# Altium integrated library NSC Voltage Reference.IntLib: 777 symbols (part 20 of 20)
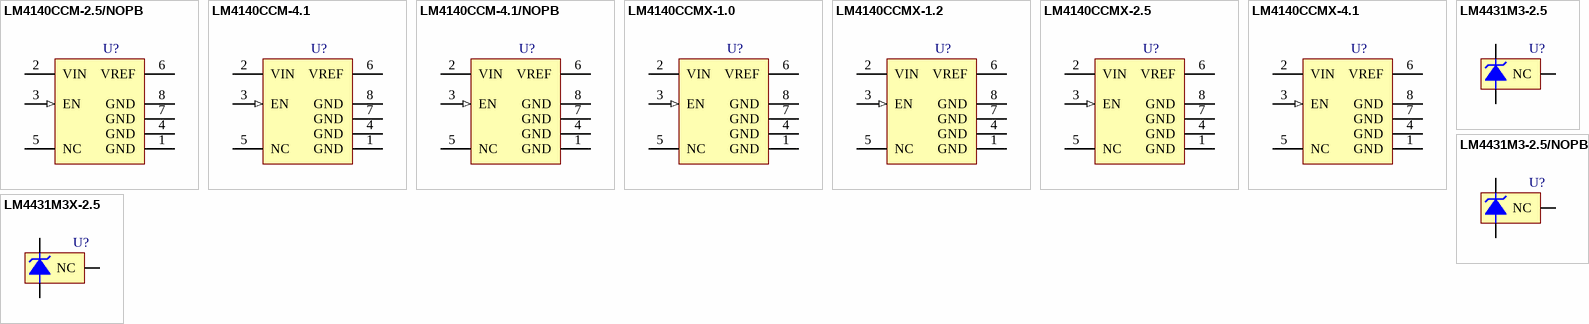
[diagram p39: symbols LM4140CCM-2.5/NOPB to LM4431M3X-2.5]

## LM4140CCM-2.5/NOPB
designator U?
Precision Micropower Low Dropout Voltage Reference, 8-pin Narrow SOIC, Pb-Free; PartNumber: LM4140CCM-2.5/NOPB; Manufacturer: National Semiconductor; PackageTopMarking: NSZXTT*4140C*CM2.5; PowerWise: Y; CompType: Voltage Reference IC; Published: 1-Mar-2010; DatasheetVersion: Feb-2005; PackageVersion: revM, May-2009; PackageReference: M08A; Publisher: Altium Limited; PackageDescription: SOIC Narrow, 4.9 x 3.9 x 1.45mm, 8 Lead, 1.27mm Pitch; Supplier 1: Digi-Key; Supplier Part Number 1: LM4140CCM-2.5-ND; Supplier 2: Farnell; Supplier Part Number 2: 1654319; RoHS: Y; PinCount: 8; Code_JEDEC: MS-012-AA; Code_IPC: SOIC127P600-8; ComponentLink1Description: LM4140 Datasheet; ComponentLink1URL: http://www.national.com/ds/LM/LM4140.pdf; ComponentLink2Description: LM4140 Web Page; ComponentLink2URL: http://www.national.com/pf/LM/LM4140.html; ComponentLink3Description: M08A Package Page; ComponentLink3URL: http://www.national.com/packaging/folders/m08a.html
footprint M08A_N (SOIC, 8-Leads, Body 4.9x3.9mm, Pitch 1.27mm, IPC Medium Density)
footprint M08A_L (SOIC, 8-Leads, Body 4.9x3.9mm, Pitch 1.27mm, IPC High Density)
footprint M08A_M (SOIC, 8-Leads, Body 4.9x3.9mm, Pitch 1.27mm, IPC Low Density)
pins: 1 GND (power), 2 VIN (power), 3 EN (in), 4 GND (power), 5 NC, 6 VREF (power), 7 GND (power), 8 GND (power)

## LM4140CCM-4.1
designator U?
Precision Micropower Low Dropout Voltage Reference, 8-pin Narrow SOIC; PartNumber: LM4140CCM-4.1; Manufacturer: National Semiconductor; PackageTopMarking: NSZXTT*4140C*CM4.1; PowerWise: Y; CompType: Voltage Reference IC; Published: 4-Dec-2008; DatasheetVersion: Feb-2005; PackageVersion: revM, May-2009; PackageReference: M08A; Publisher: Altium Limited; PackageDescription: SOIC Narrow, 4.9 x 3.9 x 1.45mm, 8 Lead, 1.27mm Pitch; Supplier 1: Farnell; Supplier Part Number 1: 1286895; RoHS: N; PinCount: 8; Code_JEDEC: MS-012-AA; Code_IPC: SOIC127P600-8; ComponentLink1Description: LM4140 Datasheet; ComponentLink1URL: http://www.national.com/ds/LM/LM4140.pdf; ComponentLink2Description: LM4140 Web Page; ComponentLink2URL: http://www.national.com/pf/LM/LM4140.html; ComponentLink3Description: M08A Package Page; ComponentLink3URL: http://www.national.com/packaging/folders/m08a.html
footprint M08A_N (SOIC, 8-Leads, Body 4.9x3.9mm, Pitch 1.27mm, IPC Medium Density)
footprint M08A_L (SOIC, 8-Leads, Body 4.9x3.9mm, Pitch 1.27mm, IPC High Density)
footprint M08A_M (SOIC, 8-Leads, Body 4.9x3.9mm, Pitch 1.27mm, IPC Low Density)
pins: 1 GND (power), 2 VIN (power), 3 EN (in), 4 GND (power), 5 NC, 6 VREF (power), 7 GND (power), 8 GND (power)

## LM4140CCM-4.1/NOPB
designator U?
Precision Micropower Low Dropout Voltage Reference, 8-pin Narrow SOIC, Pb-Free; PartNumber: LM4140CCM-4.1/NOPB; Manufacturer: National Semiconductor; PackageTopMarking: NSZXTT*4140C*CM4.1; PowerWise: Y; CompType: Voltage Reference IC; Published: 1-Mar-2010; DatasheetVersion: Feb-2005; PackageVersion: revM, May-2009; PackageReference: M08A; Publisher: Altium Limited; PackageDescription: SOIC Narrow, 4.9 x 3.9 x 1.45mm, 8 Lead, 1.27mm Pitch; Supplier 1: Digi-Key; Supplier Part Number 1: LM4140CCM-4.1-ND; Supplier 2: Farnell; Supplier Part Number 2: 1654320; RoHS: Y; PinCount: 8; Code_JEDEC: MS-012-AA; Code_IPC: SOIC127P600-8; ComponentLink1Description: LM4140 Datasheet; ComponentLink1URL: http://www.national.com/ds/LM/LM4140.pdf; ComponentLink2Description: LM4140 Web Page; ComponentLink2URL: http://www.national.com/pf/LM/LM4140.html; ComponentLink3Description: M08A Package Page; ComponentLink3URL: http://www.national.com/packaging/folders/m08a.html
footprint M08A_N (SOIC, 8-Leads, Body 4.9x3.9mm, Pitch 1.27mm, IPC Medium Density)
footprint M08A_L (SOIC, 8-Leads, Body 4.9x3.9mm, Pitch 1.27mm, IPC High Density)
footprint M08A_M (SOIC, 8-Leads, Body 4.9x3.9mm, Pitch 1.27mm, IPC Low Density)
pins: 1 GND (power), 2 VIN (power), 3 EN (in), 4 GND (power), 5 NC, 6 VREF (power), 7 GND (power), 8 GND (power)

## LM4140CCMX-1.0
designator U?
Precision Micropower Low Dropout Voltage Reference, 8-pin Narrow SOIC; PartNumber: LM4140CCMX-1.0; Manufacturer: National Semiconductor; PackageTopMarking: NSZXTT*4140C*CM1.0; PowerWise: Y; CompType: Voltage Reference IC; Published: 1-Mar-2010; DatasheetVersion: Feb-2005; PackageVersion: revM, May-2009; PackageReference: M08A; Publisher: Altium Limited; PackageDescription: SOIC Narrow, 4.9 x 3.9 x 1.45mm, 8 Lead, 1.27mm Pitch; RoHS: N; PinCount: 8; Code_JEDEC: MS-012-AA; Code_IPC: SOIC127P600-8; ComponentLink1Description: LM4140 Datasheet; ComponentLink1URL: http://www.national.com/ds/LM/LM4140.pdf; ComponentLink2Description: LM4140 Web Page; ComponentLink2URL: http://www.national.com/pf/LM/LM4140.html; ComponentLink3Description: M08A Package Page; ComponentLink3URL: http://www.national.com/packaging/folders/m08a.html
footprint M08A_N (SOIC, 8-Leads, Body 4.9x3.9mm, Pitch 1.27mm, IPC Medium Density)
footprint M08A_L (SOIC, 8-Leads, Body 4.9x3.9mm, Pitch 1.27mm, IPC High Density)
footprint M08A_M (SOIC, 8-Leads, Body 4.9x3.9mm, Pitch 1.27mm, IPC Low Density)
pins: 1 GND (power), 2 VIN (power), 3 EN (in), 4 GND (power), 5 NC, 6 VREF (power), 7 GND (power), 8 GND (power)

## LM4140CCMX-1.2
designator U?
Precision Micropower Low Dropout Voltage Reference, 8-pin Narrow SOIC; PartNumber: LM4140CCMX-1.2; Manufacturer: National Semiconductor; PackageTopMarking: NSZXTT*4140C*CM1.2; PowerWise: Y; CompType: Voltage Reference IC; Published: 1-Mar-2010; DatasheetVersion: Feb-2005; PackageVersion: revM, May-2009; PackageReference: M08A; Publisher: Altium Limited; PackageDescription: SOIC Narrow, 4.9 x 3.9 x 1.45mm, 8 Lead, 1.27mm Pitch; RoHS: N; PinCount: 8; Code_JEDEC: MS-012-AA; Code_IPC: SOIC127P600-8; ComponentLink1Description: LM4140 Datasheet; ComponentLink1URL: http://www.national.com/ds/LM/LM4140.pdf; ComponentLink2Description: LM4140 Web Page; ComponentLink2URL: http://www.national.com/pf/LM/LM4140.html; ComponentLink3Description: M08A Package Page; ComponentLink3URL: http://www.national.com/packaging/folders/m08a.html
footprint M08A_N (SOIC, 8-Leads, Body 4.9x3.9mm, Pitch 1.27mm, IPC Medium Density)
footprint M08A_L (SOIC, 8-Leads, Body 4.9x3.9mm, Pitch 1.27mm, IPC High Density)
footprint M08A_M (SOIC, 8-Leads, Body 4.9x3.9mm, Pitch 1.27mm, IPC Low Density)
pins: 1 GND (power), 2 VIN (power), 3 EN (in), 4 GND (power), 5 NC, 6 VREF (power), 7 GND (power), 8 GND (power)

## LM4140CCMX-2.5
designator U?
Precision Micropower Low Dropout Voltage Reference, 8-pin Narrow SOIC; PartNumber: LM4140CCMX-2.5; Manufacturer: National Semiconductor; PackageTopMarking: NSZXTT*4140C*CM2.5; PowerWise: Y; CompType: Voltage Reference IC; Published: 1-Mar-2010; DatasheetVersion: Feb-2005; PackageVersion: revM, May-2009; PackageReference: M08A; Publisher: Altium Limited; PackageDescription: SOIC Narrow, 4.9 x 3.9 x 1.45mm, 8 Lead, 1.27mm Pitch; RoHS: N; PinCount: 8; Code_JEDEC: MS-012-AA; Code_IPC: SOIC127P600-8; ComponentLink1Description: LM4140 Datasheet; ComponentLink1URL: http://www.national.com/ds/LM/LM4140.pdf; ComponentLink2Description: LM4140 Web Page; ComponentLink2URL: http://www.national.com/pf/LM/LM4140.html; ComponentLink3Description: M08A Package Page; ComponentLink3URL: http://www.national.com/packaging/folders/m08a.html
footprint M08A_N (SOIC, 8-Leads, Body 4.9x3.9mm, Pitch 1.27mm, IPC Medium Density)
footprint M08A_L (SOIC, 8-Leads, Body 4.9x3.9mm, Pitch 1.27mm, IPC High Density)
footprint M08A_M (SOIC, 8-Leads, Body 4.9x3.9mm, Pitch 1.27mm, IPC Low Density)
pins: 1 GND (power), 2 VIN (power), 3 EN (in), 4 GND (power), 5 NC, 6 VREF (power), 7 GND (power), 8 GND (power)

## LM4140CCMX-4.1
designator U?
Precision Micropower Low Dropout Voltage Reference, 8-pin Narrow SOIC; PartNumber: LM4140CCMX-4.1; Manufacturer: National Semiconductor; PackageTopMarking: NSZXTT*4140C*CM4.1; PowerWise: Y; CompType: Voltage Reference IC; Published: 1-Mar-2010; DatasheetVersion: Feb-2005; PackageVersion: revM, May-2009; PackageReference: M08A; Publisher: Altium Limited; PackageDescription: SOIC Narrow, 4.9 x 3.9 x 1.45mm, 8 Lead, 1.27mm Pitch; RoHS: N; PinCount: 8; Code_JEDEC: MS-012-AA; Code_IPC: SOIC127P600-8; ComponentLink1Description: LM4140 Datasheet; ComponentLink1URL: http://www.national.com/ds/LM/LM4140.pdf; ComponentLink2Description: LM4140 Web Page; ComponentLink2URL: http://www.national.com/pf/LM/LM4140.html; ComponentLink3Description: M08A Package Page; ComponentLink3URL: http://www.national.com/packaging/folders/m08a.html
footprint M08A_N (SOIC, 8-Leads, Body 4.9x3.9mm, Pitch 1.27mm, IPC Medium Density)
footprint M08A_L (SOIC, 8-Leads, Body 4.9x3.9mm, Pitch 1.27mm, IPC High Density)
footprint M08A_M (SOIC, 8-Leads, Body 4.9x3.9mm, Pitch 1.27mm, IPC Low Density)
pins: 1 GND (power), 2 VIN (power), 3 EN (in), 4 GND (power), 5 NC, 6 VREF (power), 7 GND (power), 8 GND (power)

## LM4431M3-2.5
designator U?
Micropower Shunt Voltage Reference, 3-pin SOT-23; PartNumber: LM4431M3-2.5; Manufacturer: National Semiconductor; PackageTopMarking: S2E*XTT; PowerWise: N; CompType: Voltage Reference IC; Published: 4-Dec-2008; DatasheetVersion: Jul-1998; PackageVersion: revB, Mar-2003; PackageReference: MF03A; Publisher: Altium Limited; PackageDescription: Molded SOT-23, .115 x .051 x .037in Body, 3 Lead, .075 in Pitch; Supplier 1: Farnell; Supplier Part Number 1: 9779639; RoHS: N; PinCount: 3; ComponentLink1Description: LM4431 Datasheet; ComponentLink1URL: http://www.national.com/ds/LM/LM4431.pdf; ComponentLink2Description: LM4431 Web Page; ComponentLink2URL: http://www.national.com/pf/LM/LM4431.html; ComponentLink3Description: MF03A Package Page; ComponentLink3URL: http://www.national.com/packaging/folders/mf03a.html
footprint MF03A_N (SOT23, 3-Leads, Body 2.9x1.3mm, Pitch 0.95mm, Lead Span 2.4mm, IPC Medium Density)
footprint MF03A_L (SOT23, 3-Leads, Body 2.9x1.3mm, Pitch 0.95mm, Lead Span 2.4mm, IPC High Density)
footprint MF03A_M (SOT23, 3-Leads, Body 2.9x1.3mm, Pitch 0.95mm, Lead Span 2.4mm, IPC Low Density)
pins: 1 +V, 2 -V, 3 NC

## LM4431M3-2.5/NOPB
designator U?
Micropower Shunt Voltage Reference, 3-pin SOT-23, Pb-Free; PartNumber: LM4431M3-2.5/NOPB; Manufacturer: National Semiconductor; PackageTopMarking: S2E*XTT; PowerWise: N; CompType: Voltage Reference IC; Published: 1-Mar-2010; DatasheetVersion: Jul-1998; PackageVersion: revB, Mar-2003; PackageReference: MF03A; Publisher: Altium Limited; PackageDescription: Molded SOT-23, .115 x .051 x .037in Body, 3 Lead, .075 in Pitch; Supplier 1: Digi-Key; Supplier Part Number 1: LM4431M3-2.5TR-ND; Supplier 2: Digi-Key; Supplier Part Number 2: LM4431M3-2.5CT-ND; Supplier 3: Digi-Key; Supplier Part Number 3: LM4431M3-2.5DKR-ND; Supplier 4: Farnell; Supplier Part Number 4: 1496171; RoHS: Y; PinCount: 3; ComponentLink1Description: LM4431 Datasheet; ComponentLink1URL: http://www.national.com/ds/LM/LM4431.pdf; ComponentLink2Description: LM4431 Web Page; ComponentLink2URL: http://www.national.com/pf/LM/LM4431.html; ComponentLink3Description: MF03A Package Page; ComponentLink3URL: http://www.national.com/packaging/folders/mf03a.html
footprint MF03A_N (SOT23, 3-Leads, Body 2.9x1.3mm, Pitch 0.95mm, Lead Span 2.4mm, IPC Medium Density)
footprint MF03A_L (SOT23, 3-Leads, Body 2.9x1.3mm, Pitch 0.95mm, Lead Span 2.4mm, IPC High Density)
footprint MF03A_M (SOT23, 3-Leads, Body 2.9x1.3mm, Pitch 0.95mm, Lead Span 2.4mm, IPC Low Density)
pins: 1 +V, 2 -V, 3 NC

## LM4431M3X-2.5
designator U?
Micropower Shunt Voltage Reference, 3-pin SOT-23; PartNumber: LM4431M3X-2.5; Manufacturer: National Semiconductor; PackageTopMarking: S2E*XTT; PowerWise: N; CompType: Voltage Reference IC; Published: 1-Mar-2010; DatasheetVersion: Jul-1998; PackageVersion: revB, Mar-2003; PackageReference: MF03A; Publisher: Altium Limited; PackageDescription: Molded SOT-23, .115 x .051 x .037in Body, 3 Lead, .075 in Pitch; RoHS: N; PinCount: 3; ComponentLink1Description: LM4431 Datasheet; ComponentLink1URL: http://www.national.com/ds/LM/LM4431.pdf; ComponentLink2Description: LM4431 Web Page; ComponentLink2URL: http://www.national.com/pf/LM/LM4431.html; ComponentLink3Description: MF03A Package Page; ComponentLink3URL: http://www.national.com/packaging/folders/mf03a.html
footprint MF03A_N (SOT23, 3-Leads, Body 2.9x1.3mm, Pitch 0.95mm, Lead Span 2.4mm, IPC Medium Density)
footprint MF03A_L (SOT23, 3-Leads, Body 2.9x1.3mm, Pitch 0.95mm, Lead Span 2.4mm, IPC High Density)
footprint MF03A_M (SOT23, 3-Leads, Body 2.9x1.3mm, Pitch 0.95mm, Lead Span 2.4mm, IPC Low Density)
pins: 1 +V, 2 -V, 3 NC